# Altium footprint library SamacSys.PcbLib: 23 footprints (part 2 of 2)
Each footprint in its own frame and in the unit in brackets; x right, y up, seen from the top. Pads: shape width x height; smd on the part's side, far side on the other; paste and mask are expansions set on the pad; w line width, h text height; cw(c..) or ccw(c..) is an arc to the next point about the centre after c.
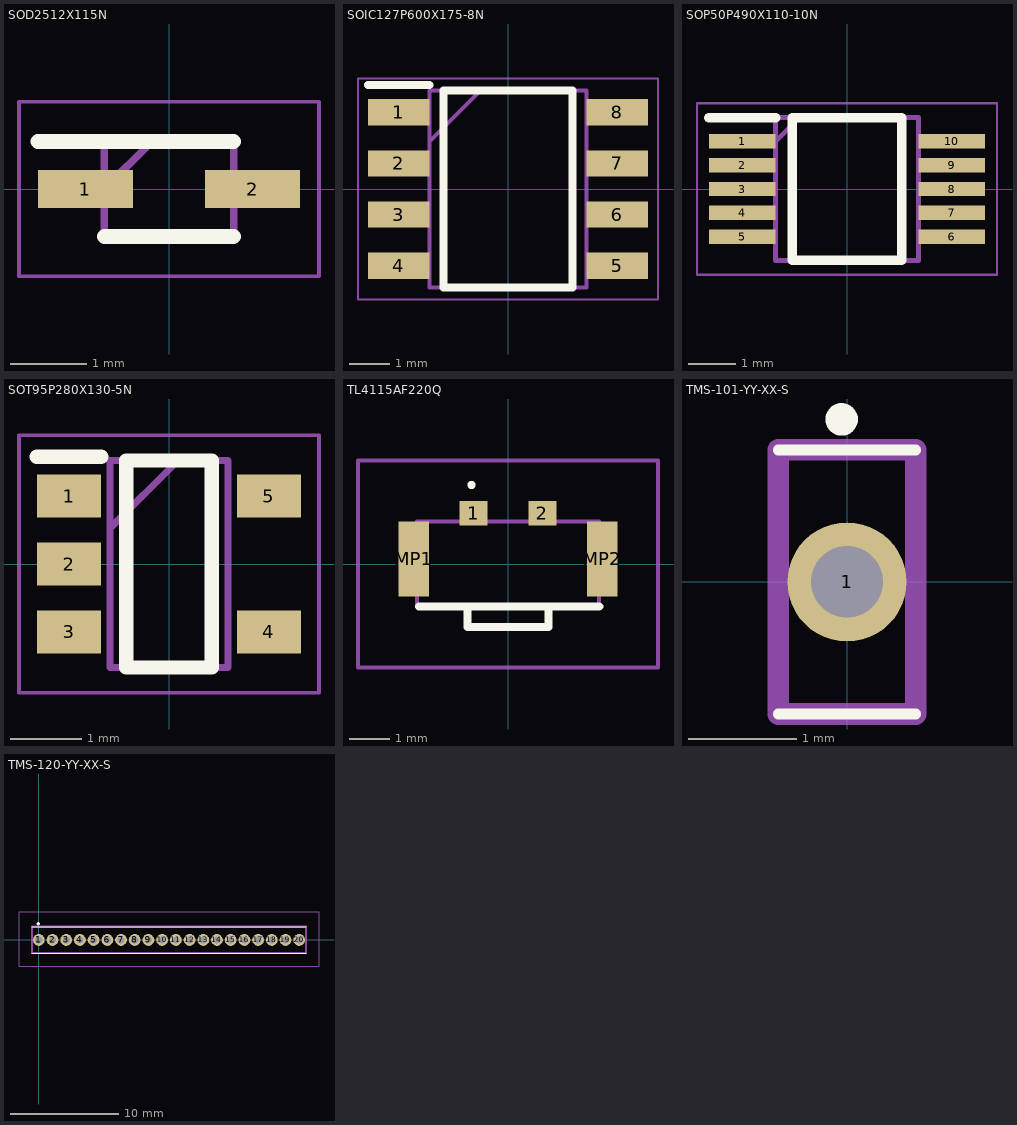
[diagram p1: the footprints below, top view; thin cyan lines are the x and y axes]

## SOD2512X115N [mm]
pads (2):
  rect 1.25x0.5 smd: 1(-1.1,0) 2(1.1,0)
Top Overlay:
  lines w0.2: -1.725,0.625 0.85,0.625 ; -0.85,-0.625 0.85,-0.625
Mechanical 13:
  lines w0.1: -0.85,0 -0.225,0.625 ; -0.85,-0.625 -0.85,0.625 0.85,0.625 0.85,-0.625 -0.85,-0.625
Mechanical 15:
  lines w0.05: -1.975,-1.15 -1.975,1.15 1.975,1.15 1.975,-1.15 -1.975,-1.15
3D body "B5817WS-TP.stp": height 1.15, standoff 0, extent -1.25,-0.625 1.25,0.625

## SOIC127P600X175-8N [mm]
pads (8):
  rect 1.525x0.65 smd: 1(-2.712,1.905) 2(-2.712,0.635) 3(-2.712,-0.635) 4(-2.712,-1.905) 5(2.712,-1.905) 6(2.712,-0.635) 7(2.712,0.635) 8(2.712,1.905)
Top Overlay:
  lines w0.2: -3.475,2.58 -1.95,2.58 ; -1.6,-2.45 1.6,-2.45 1.6,2.45 -1.6,2.45 -1.6,-2.45
Mechanical 13:
  lines w0.1: -1.95,1.18 -0.68,2.45 ; -1.95,-2.45 1.95,-2.45 1.95,2.45 -1.95,2.45 -1.95,-2.45
Mechanical 15:
  lines w0.05: -3.725,-2.75 3.725,-2.75 3.725,2.75 -3.725,2.75 -3.725,-2.75
3D body "NE555DR.stp": height 1.75, standoff 0, extent -3,-2.45 3,2.45

## SOP50P490X110-10N [mm]
pads (10):
  rect 1.4x0.3 smd: 1(-2.2,1) 2(-2.2,0.5) 3(-2.2,0) 4(-2.2,-0.5) 5(-2.2,-1) 6(2.2,-1) 7(2.2,-0.5) 8(2.2,0) 9(2.2,0.5) 10(2.2,1)
Top Overlay:
  lines w0.2: -2.9,1.5 -1.5,1.5 ; -1.15,-1.5 -1.15,1.5 1.15,1.5 1.15,-1.5 -1.15,-1.5
Mechanical 13:
  lines w0.1: -1.5,1 -1,1.5 ; -1.5,-1.5 -1.5,1.5 1.5,1.5 1.5,-1.5 -1.5,-1.5
Mechanical 15:
  lines w0.05: -3.15,-1.8 -3.15,1.8 3.15,1.8 3.15,-1.8 -3.15,-1.8
3D body "TS5A22364QDGSRQ1.stp": height 1.1, standoff 0, extent -2.463,-1.5 2.463,1.5

## SOT95P280X130-5N [mm]
pads (5):
  rect 0.9x0.6 smd: 1(-1.4,0.95) 2(-1.4,0) 3(-1.4,-0.95) 4(1.4,-0.95) 5(1.4,0.95)
Top Overlay:
  lines w0.2: -1.85,1.5 -0.95,1.5 ; -0.6,-1.45 -0.6,1.45 0.6,1.45 0.6,-1.45 -0.6,-1.45
Mechanical 13:
  lines w0.1: -0.825,0.5 0.125,1.45 ; -0.825,-1.45 -0.825,1.45 0.825,1.45 0.825,-1.45 -0.825,-1.45
Mechanical 15:
  lines w0.05: -2.1,-1.8 -2.1,1.8 2.1,1.8 2.1,-1.8 -2.1,-1.8
3D body "XC6901D331MR-G.stp": height 1.3, standoff 0, extent -1.4,-1.45 1.4,1.45

## TL4115AF220Q [mm]
pads (4):
  rect 0.7x0.6 smd: 1(-0.85,1.25) 2(0.85,1.25)
  rect 0.75x1.85 smd: MP1(-2.325,0.125) MP2(2.325,0.125)
Top Overlay:
  lines w0.1: -0.9,1.9 cw(c-0.9,1.95) -0.9,2 cw(c-0.9,1.95) -0.9,1.9
  lines w0.2: -2.2,-1.05 2.25,-1.05 ; -1,-1.05 -1,-1.55 1,-1.55 1,-1.05
Mechanical 13:
  lines w0.1: -1,-1.05 -1,-1.55 1,-1.55 1,-1.05 ; -2.25,-1.05 -2.25,1.05 2.25,1.05 2.25,-1.05 -2.25,-1.05
Mechanical 15:
  lines w0.1: -3.7,-2.55 -3.7,2.55 3.7,2.55 3.7,-2.55 -3.7,-2.55
3D body "TL4115AF220Q.stp": height 1.12, standoff -1.14, extent -2.278,-0.5 2.291,2.576

## TMS-101-YY-XX-S [mm]
pads (1):
  round 1.1 hole 0.66: 1(0,0)
Top Overlay:
  circle w0.2: c-0.05,1.5 r0.05
  lines w0.1: -0.635,-1.219 0.635,-1.219 ; -0.635,1.219 0.635,1.219
Mechanical 13:
  lines w0.2: -0.635,-1.219 -0.635,1.219 0.635,1.219 0.635,-1.219 -0.635,-1.219

## TMS-120-YY-XX-S [mm]
pads (20):
  round 1.1 hole 0.66: 1(0,0) 2(1.27,0) 3(2.54,0) 4(3.81,0) 5(5.08,0) 6(6.35,0) 7(7.62,0) 8(8.89,0) 9(10.16,0) 10(11.43,0) 11(12.7,0) 12(13.97,0) 13(15.24,0) 14(16.51,0) 15(17.78,0) 16(19.05,0) 17(20.32,0) 18(21.59,0) 19(22.86,0) 20(24.13,0)
Top Overlay:
  circle w0.2: c-0.05,1.5 r0.05
  lines w0.1: -0.635,-1.219 24.765,-1.219 ; -0.635,1.219 24.765,1.219
Mechanical 13:
  lines w0.2: -0.635,-1.219 24.765,-1.219 24.765,1.219 -0.635,1.219 -0.635,-1.219
Mechanical 15:
  lines w0.05: -1.835,-2.419 25.965,-2.419 25.965,2.6 -1.835,2.6 -1.835,-2.419